# Altium footprint library LED_board.PcbLib: 17 footprints (part 1 of 2)
Each footprint in its own frame and in the unit in brackets; x right, y up, seen from the top. Pads: shape width x height; smd on the part's side, far side on the other; paste and mask are expansions set on the pad; w line width, h text height; cw(c..) or ccw(c..) is an arc to the next point about the centre after c.
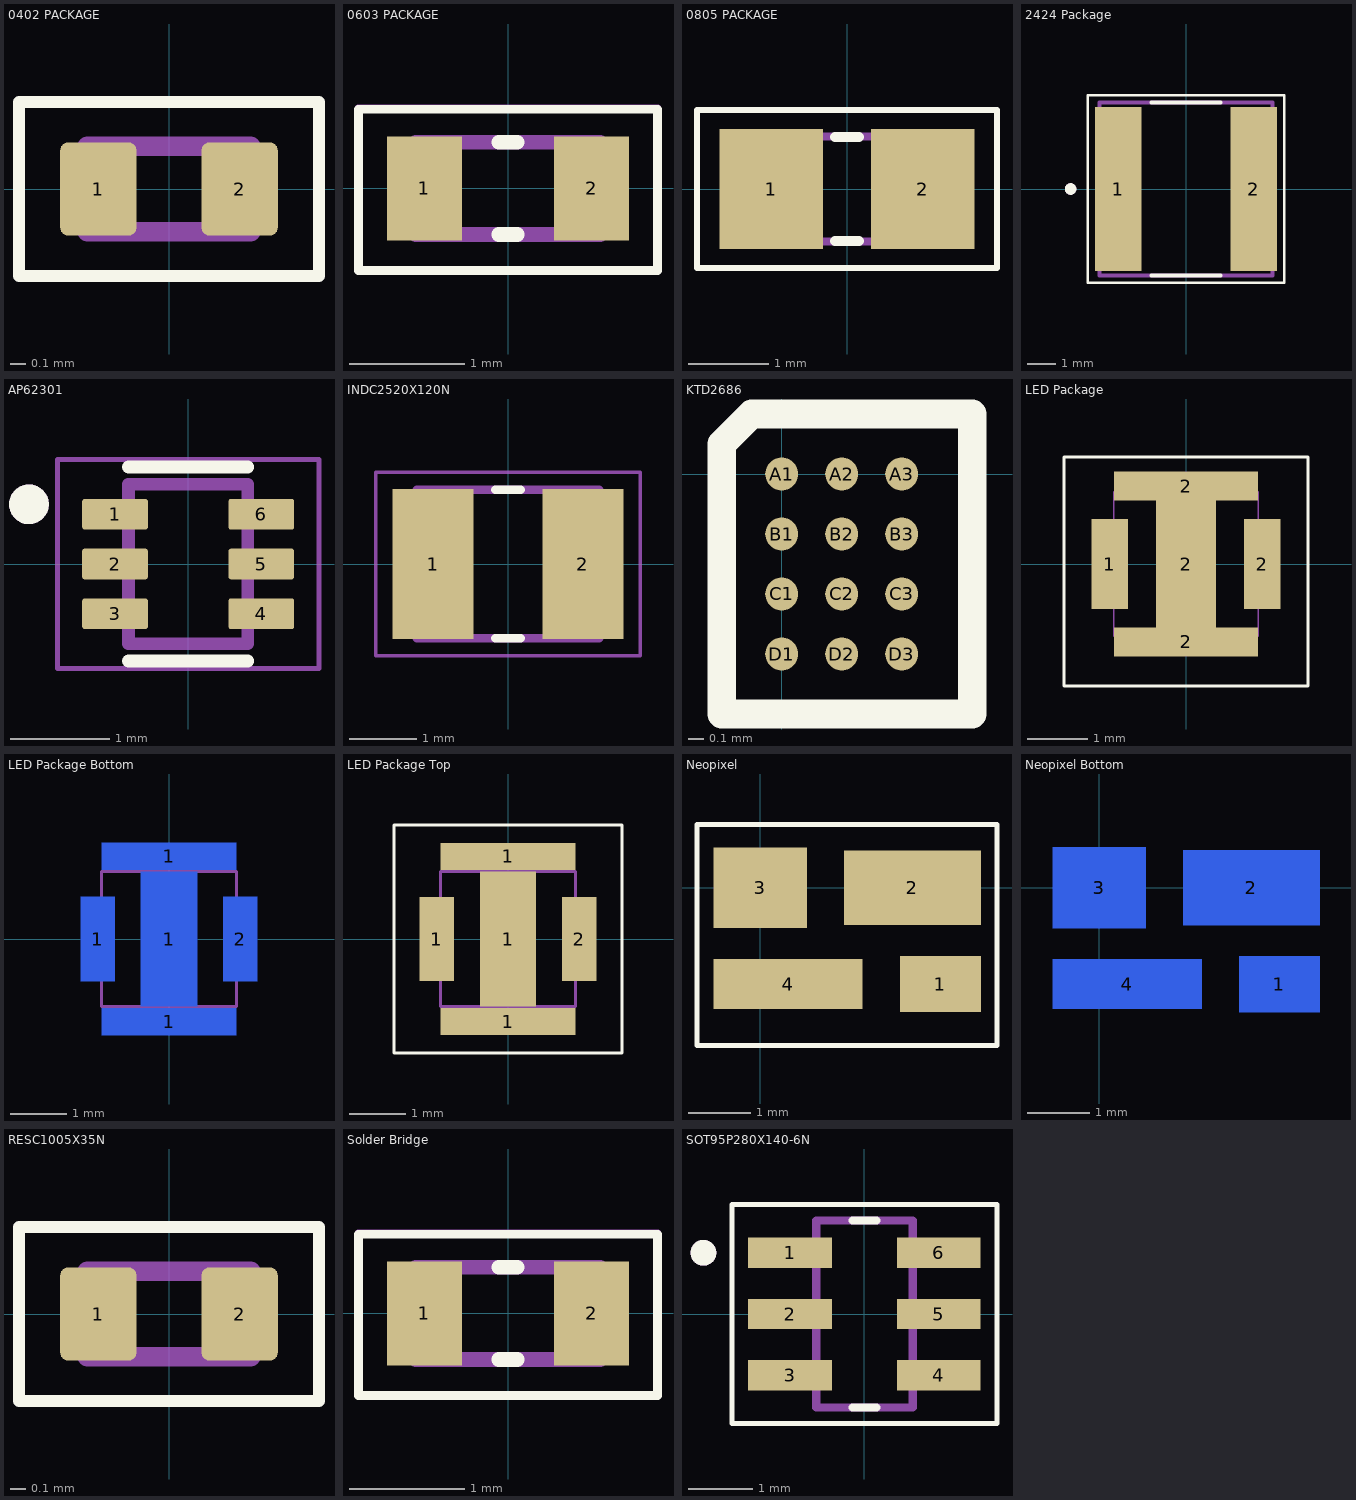
[diagram p0: the footprints below, top view; thin cyan lines are the x and y axes]

## 0402 PACKAGE [mm]
pads (2):
  rrect20% 0.49x0.6 smd: 1(-0.455,0) 2(0.455,0)
Top Overlay:
  lines w0.076: -0.965,-0.559 -0.965,0.559 0.965,0.559 0.965,-0.559 -0.965,-0.559
Mechanical 13:
  lines w0.127: -0.525,-0.275 0.525,-0.275 0.525,0.275 -0.525,0.275 -0.525,-0.275
Mechanical 15:
  lines w0.05: -0.95,-0.55 0.95,-0.55 0.95,0.55 -0.95,0.55 -0.95,-0.55
3D body "6-1879216-3.stp": height 0.15, standoff -0.15, extent -0.5,-0.25 0.5,0.25

## 0603 PACKAGE [mm]
pads (2):
  rect 0.65x0.9 smd: 1(-0.725,0) 2(0.725,0)
Top Overlay:
  lines w0.076: -1.295,-0.711 -1.295,0.686 1.295,0.686 1.295,-0.711 -1.295,-0.711
  lines w0.127: -0.08,-0.4 0.08,-0.4 ; -0.08,0.4 0.08,0.4
Mechanical 13:
  lines w0.127: -0.8,-0.4 -0.8,0.4 0.8,0.4 0.8,-0.4 -0.8,-0.4
Mechanical 15:
  lines w0.05: -1.3,-0.7 -1.3,0.7 1.3,0.7 1.3,-0.7 -1.3,-0.7
3D body "Download_STP_8850122060xx_rev1.stp": height 0.4, standoff -0.4, extent -0.8,-0.4 0.8,0.4

## 0805 PACKAGE [mm]
pads (2):
  rect 1.3x1.5 smd: 1(-0.95,0) 2(0.95,0)
Top Overlay:
  lines w0.076: -1.88,-0.991 1.88,-0.991 1.88,0.991 -1.88,0.991 -1.88,-0.991
  lines w0.127: -0.15,-0.65 0.15,-0.65 ; -0.15,0.65 0.15,0.65
Mechanical 13:
  region: 1.106,-0.724 0.356,-0.724 0.356,0.726 1.106,0.726
  region: -0.342,-0.724 -1.092,-0.724 -1.092,0.726 -0.342,0.726
  lines w0.102: -0.381,0.66 0.381,0.66 ; -0.356,-0.66 0.381,-0.66
Mechanical 15:
  lines w0.051: -1.873,-0.983 -1.873,0.983 1.873,0.983 1.873,-0.983 -1.873,-0.983
3D body "GCM2165C1H152JA16D.STEP": height 0.72, standoff -0.72, extent -1,-0.625 1,0.625

## 2424 Package [mm]
pads (2):
  rect 1.6x5.7 smd: 1(-2.35,0) 2(2.35,0)
Top Overlay:
  circle w0.2: c-4,0 r0.1
  lines w0.076: -3.404,-3.251 -3.404,3.251 3.404,3.251 3.404,-3.251 -3.404,-3.251
  lines w0.127: -1.2,-3 1.2,-3 ; -1.2,3 1.2,3
Mechanical 13:
  circle w0.2: c-4,0 r0.1
  lines w0.127: -3,-3 -3,3 3,3 3,-3 -3,-3
Mechanical 15:
  lines w0.05: -3.4,-3.25 -3.4,3.25 3.4,3.25 3.4,-3.25 -3.4,-3.25

## AP62301 [mm] "Buck Converter"
pads (6):
  rrect16% 0.66x0.31 smd: 1(-0.735,0.5) 2(-0.735,0) 3(-0.735,-0.5) 4(0.735,-0.5) 5(0.735,0) 6(0.735,0.5)
Top Overlay:
  circle w0.2: c-1.6,0.6 r0.1
  lines w0.127: -0.6,-0.975 0.6,-0.975 ; -0.6,0.975 0.6,0.975
Mechanical 13:
  circle w0.2: c-1.6,0.6 r0.1
  lines w0.127: -0.6,-0.8 0.6,-0.8 0.6,0.8 -0.6,0.8 -0.6,-0.8
Mechanical 15:
  lines w0.05: -1.315,-1.05 1.315,-1.05 1.315,1.05 -1.315,1.05 -1.315,-1.05
3D body "step_temp.STEP": height 0.6, standoff 0, extent -0.8,-0.8 0.8,0.8

## INDC2520X120N [mm]
pads (2):
  rect 1.2x2.22 smd: 1(-1.11,0) 2(1.11,0)
Top Overlay:
  lines w0.127: -0.19,-1.1 0.19,-1.1 ; -0.19,1.1 0.19,1.1
Mechanical 13:
  lines w0.127: -1.35,-1.1 -1.35,1.1 1.35,1.1 1.35,-1.1 -1.35,-1.1
Mechanical 15:
  lines w0.05: -1.958,-1.358 -1.958,1.358 1.958,1.358 1.958,-1.358 -1.958,-1.358

## KTD2686 [mm]
pads (12):
  round 0.22 smd mask+0.05: A1(0,0) A2(0.4,0) A3(0.8,0) B1(0,-0.4) B2(0.4,-0.4) B3(0.8,-0.4) C1(0,-0.8) C2(0.4,-0.8) C3(0.8,-0.8) D1(0,-1.2) D2(0.4,-1.2) D3(0.8,-1.2)
Top Overlay:
  lines w0.191: -0.4,-1.6 -0.4,0.2 -0.2,0.4 1.27,0.4 1.27,-0.1 1.27,-1.1 1.27,-1.6 -0.4,-1.6

## LED Package [mm]
pads (5):
  rect 0.61x1.5 smd mask+0.051: 1(-1.27,0) 2(1.27,0)
  rect 2.4x0.48 smd mask+0.051: 2(0,-1.295) 2(0,1.295)
  rect 1x2.4 smd mask+0.051: 2(0,0)
Top Overlay:
  lines w0.051: -2.032,-2.032 2.032,-2.032 2.032,1.778 -2.032,1.778 -2.032,-2.032
Mechanical 1:
  lines w0.025: -1.2,-1.2 1.2,-1.2 1.2,1.2 -1.2,1.2 -1.2,-1.2

## LED Package Bottom [mm]
pads (5):
  rect 0.61x1.5 smd far side mask+0.051: 1(-1.27,0) 2(1.27,0)
  rect 2.4x0.48 smd far side mask+0.051: 1(0,-1.473) 1(0,1.473)
  rect 1x2.4 smd far side mask+0.051: 1(0,0)
Bottom Overlay:
  lines w0.051: -2.032,-2.032 -2.032,2.032 2.032,2.032 2.032,-2.032 -2.032,-2.032
Mechanical 13:
  lines w0.051: -1.2,-1.2 -1.2,1.2 1.2,1.2 1.2,-1.2 -1.2,-1.2

## LED Package Top [mm]
pads (5):
  rect 0.61x1.5 smd mask+0.051: 1(-1.27,0) 2(1.27,0)
  rect 2.4x0.48 smd mask+0.051: 1(0,-1.473) 1(0,1.473)
  rect 1x2.4 smd mask+0.051: 1(0,0)
Top Overlay:
  lines w0.051: -2.032,-2.032 2.032,-2.032 2.032,2.032 -2.032,2.032 -2.032,-2.032
Mechanical 13:
  lines w0.051: -1.2,-1.2 1.2,-1.2 1.2,1.2 -1.2,1.2 -1.2,-1.2

## Neopixel [mm]
pads (4):
  rect 1.3x0.9 smd: 1(2.9,-1.55)
  rect 2.2x1.2 smd: 2(2.45,0)
  rect 1.5x1.3 smd: 3(0,0)
  rect 2.4x0.8 smd: 4(0.45,-1.55)
Top Overlay:
  lines w0.076: -1.016,-2.54 3.81,-2.54 3.81,1.016 -1.016,1.016 -1.016,-2.54

## Neopixel Bottom [mm]
pads (4):
  rect 1.3x0.9 smd far side: 1(2.9,-1.55)
  rect 2.2x1.2 smd far side: 2(2.45,0)
  rect 1.5x1.3 smd far side: 3(0,0)
  rect 2.4x0.8 smd far side: 4(0.45,-1.55)
Bottom Overlay:
  lines w0.076: -1.016,-2.54 -1.016,1.016 3.81,1.016 3.81,-2.54 -1.016,-2.54

## PCBComponent_1 [mm]

## RESC1005X35N [mm]
pads (2):
  rrect20% 0.49x0.6 smd: 1(-0.455,0) 2(0.455,0)
Top Overlay:
  lines w0.076: -0.965,-0.559 -0.965,0.559 0.965,0.559 0.965,-0.559 -0.965,-0.559
Mechanical 13:
  lines w0.127: -0.525,-0.275 0.525,-0.275 0.525,0.275 -0.525,0.275 -0.525,-0.275
Mechanical 15:
  lines w0.05: -0.95,-0.55 0.95,-0.55 0.95,0.55 -0.95,0.55 -0.95,-0.55

## Solder Bridge [mm]
pads (2):
  rect 0.65x0.9 smd: 1(-0.725,0) 2(0.725,0)
Top Overlay:
  lines w0.076: -1.295,-0.711 1.295,-0.711 1.295,0.686 -1.295,0.686 -1.295,-0.711
  lines w0.127: -0.08,-0.4 0.08,-0.4 ; -0.08,0.4 0.08,0.4
Mechanical 13:
  lines w0.127: -0.8,-0.4 0.8,-0.4 0.8,0.4 -0.8,0.4 -0.8,-0.4
Mechanical 15:
  lines w0.05: -1.3,-0.7 1.3,-0.7 1.3,0.7 -1.3,0.7 -1.3,-0.7

## SOT95P280X140-6N [mm]
pads (6):
  rect 1.3x0.47 smd: 1(-1.155,0.95) 2(-1.155,0) 3(-1.155,-0.95) 4(1.155,-0.95) 5(1.155,0) 6(1.155,0.95)
Top Overlay:
  circle w0.2: c-2.5,0.95 r0.1
  lines w0.076: -2.057,-1.702 -2.057,1.702 2.057,1.702 2.057,-1.702 -2.057,-1.702
  lines w0.127: -0.185,-1.45 0.185,-1.45 ; -0.185,1.45 0.185,1.45
Mechanical 13:
  circle w0.2: c-2.5,0.95 r0.1
  lines w0.127: -0.75,-1.45 -0.75,1.45 0.75,1.45 0.75,-1.45 -0.75,-1.45
Mechanical 15:
  lines w0.05: -2.055,-1.7 2.055,-1.7 2.055,1.7 -2.055,1.7 -2.055,-1.7
3D body "step_temp.STEP": height 1.4, standoff 0, extent -1.425,-1.5 1.425,1.5